# EAGLE library part TPS5431* (library kamiki)
3-6V input, 3A output Synchronous-buck PWM Switcher with Integrated FETs
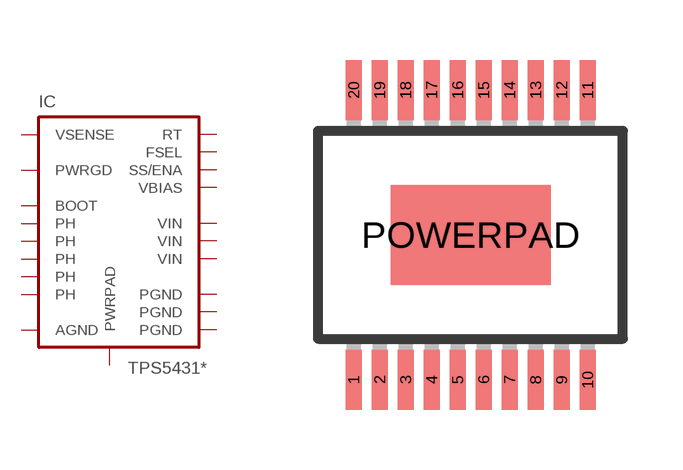
[diagram p31: symbol with the pads of SSOP20-PPAD; footprint SSOP20-PPAD]

Designator prefix IC

## TPS54311PWP, TPS54312PWP, TPS54313PWP, TPS54314PWP, TPS54315PWP, TPS54316PWP  [SSOP20-PPAD]
1  AGND  pwr
2  VSENSE  in
4  PWRGD  out
5  BOOT  pas
6  PH  pwr
7  PH  pwr
8  PH  pwr
9  PH  pwr
10  PH  pwr
11  PGND  pwr
12  PGND  pwr
13  PGND  pwr
14  VIN  pwr
15  VIN  pwr
16  VIN  pwr
17  VBIAS  pas
18  SS/ENA  pas
19  FSEL  pas
20  RT  pas
POWERPAD  PWRPAD  pas

## Footprint SSOP20-PPAD (pad centres in mm)
Shrink Small Outline Package package type SS
smd 0.4 x 1.5: 1 -2.925,-3.625; 2 -2.275,-3.625; 3 -1.625,-3.625; 4 -0.975,-3.625; 5 -0.325,-3.625; 6 0.325,-3.625; 7 0.975,-3.625; 8 1.625,-3.625; 9 2.275,-3.625; 10 2.925,-3.625; 11 2.925,3.625; 12 2.275,3.625; 13 1.625,3.625; 14 0.975,3.625; 15 0.325,3.625; 16 -0.325,3.625; 17 -0.975,3.625; 18 -1.625,3.625; 19 -2.275,3.625; 20 -2.925,3.625
smd 4 x 2.5: POWERPAD 0,0